# Altium integrated library National Semiconductor Voltage Reference.IntLib: 796 symbols (part 20 of 20)
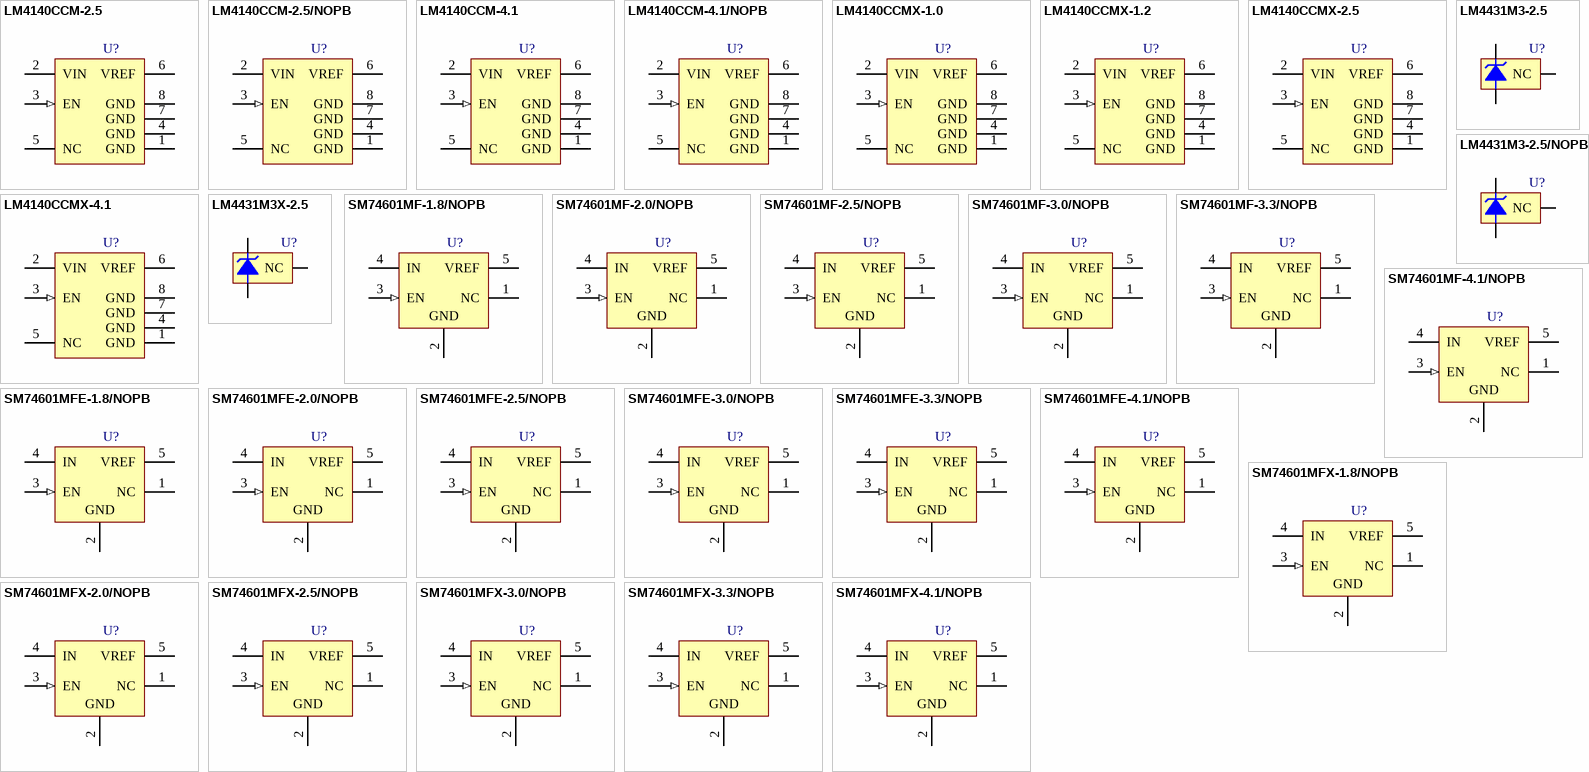
[diagram p39: symbols LM4140CCM-2.5 to SM74601MFX-4.1/NOPB]

## SM74601MF-3.0/NOPB
designator U?
SOT-23 Precision Micropower Series Voltage Reference, 5-pin SOT-23; PartNumber: SM74601MF-3.0/NOPB; Manufacturer: National Semiconductor; PackageTopMarking: S604*XTT; PowerWise: N; CompType: Voltage Reference IC; High-Reliability: Y; DatasheetVersion: Sep-2001; PackageVersion: revD, Aug-2008; PackageReference: MF05A; PackageDescription: Molded SOT-23, .115 x .063 x .040 in Body, 5 Lead, .0375 in Pitch; RoHS: Y; PinCount: 5; ComponentLink1Description: Manufacturer URL; ComponentLink1URL: http://www.national.com/; ComponentLink2Description: SM74601 Datasheet; ComponentLink2URL: http://www.national.com/ds/SM/SM74601.pdf; ComponentLink3Description: SM74601 Web Page; ComponentLink3URL: http://www.national.com/pf/SM/SM74601.html; ComponentLink4Description: MF05A Package Page; ComponentLink4URL: http://www.national.com/packaging/folders/mf05a.html
footprint MF05A_N (SOT23, 5-Leads, Body 2.9x1.6mm, Pitch 0.95mm, Lead Span 2.8mm, IPC Medium Density)
footprint MF05A_L (SOT23, 5-Leads, Body 2.9x1.6mm, Pitch 0.95mm, Lead Span 2.8mm, IPC High Density)
footprint MF05A_M (SOT23, 5-Leads, Body 2.9x1.6mm, Pitch 0.95mm, Lead Span 2.8mm, IPC Low Density)
pins: 1 NC, 2 GND (power), 3 EN (in), 4 IN (power), 5 VREF (power)

## SM74601MF-3.3/NOPB
designator U?
SOT-23 Precision Micropower Series Voltage Reference, 5-pin SOT-23; PartNumber: SM74601MF-3.3/NOPB; Manufacturer: National Semiconductor; PackageTopMarking: S605*XTT; PowerWise: N; CompType: Voltage Reference IC; High-Reliability: Y; DatasheetVersion: Sep-2001; PackageVersion: revD, Aug-2008; PackageReference: MF05A; PackageDescription: Molded SOT-23, .115 x .063 x .040 in Body, 5 Lead, .0375 in Pitch; RoHS: Y; PinCount: 5; ComponentLink1Description: Manufacturer URL; ComponentLink1URL: http://www.national.com/; ComponentLink2Description: SM74601 Datasheet; ComponentLink2URL: http://www.national.com/ds/SM/SM74601.pdf; ComponentLink3Description: SM74601 Web Page; ComponentLink3URL: http://www.national.com/pf/SM/SM74601.html; ComponentLink4Description: MF05A Package Page; ComponentLink4URL: http://www.national.com/packaging/folders/mf05a.html
footprint MF05A_N (SOT23, 5-Leads, Body 2.9x1.6mm, Pitch 0.95mm, Lead Span 2.8mm, IPC Medium Density)
footprint MF05A_L (SOT23, 5-Leads, Body 2.9x1.6mm, Pitch 0.95mm, Lead Span 2.8mm, IPC High Density)
footprint MF05A_M (SOT23, 5-Leads, Body 2.9x1.6mm, Pitch 0.95mm, Lead Span 2.8mm, IPC Low Density)
pins: 1 NC, 2 GND (power), 3 EN (in), 4 IN (power), 5 VREF (power)

## SM74601MF-4.1/NOPB
designator U?
SOT-23 Precision Micropower Series Voltage Reference, 5-pin SOT-23; PartNumber: SM74601MF-4.1/NOPB; Manufacturer: National Semiconductor; PackageTopMarking: S606*XTT; PowerWise: N; CompType: Voltage Reference IC; High-Reliability: Y; DatasheetVersion: Sep-2001; PackageVersion: revD, Aug-2008; PackageReference: MF05A; PackageDescription: Molded SOT-23, .115 x .063 x .040 in Body, 5 Lead, .0375 in Pitch; RoHS: Y; PinCount: 5; ComponentLink1Description: Manufacturer URL; ComponentLink1URL: http://www.national.com/; ComponentLink2Description: SM74601 Datasheet; ComponentLink2URL: http://www.national.com/ds/SM/SM74601.pdf; ComponentLink3Description: SM74601 Web Page; ComponentLink3URL: http://www.national.com/pf/SM/SM74601.html; ComponentLink4Description: MF05A Package Page; ComponentLink4URL: http://www.national.com/packaging/folders/mf05a.html
footprint MF05A_N (SOT23, 5-Leads, Body 2.9x1.6mm, Pitch 0.95mm, Lead Span 2.8mm, IPC Medium Density)
footprint MF05A_L (SOT23, 5-Leads, Body 2.9x1.6mm, Pitch 0.95mm, Lead Span 2.8mm, IPC High Density)
footprint MF05A_M (SOT23, 5-Leads, Body 2.9x1.6mm, Pitch 0.95mm, Lead Span 2.8mm, IPC Low Density)
pins: 1 NC, 2 GND (power), 3 EN (in), 4 IN (power), 5 VREF (power)

## SM74601MFE-1.8/NOPB
designator U?
SOT-23 Precision Micropower Series Voltage Reference, 5-pin SOT-23; PartNumber: SM74601MFE-1.8/NOPB; Manufacturer: National Semiconductor; PackageTopMarking: S602*XTT; PowerWise: N; CompType: Voltage Reference IC; High-Reliability: Y; DatasheetVersion: Sep-2001; PackageVersion: revD, Aug-2008; PackageReference: MF05A; PackageDescription: Molded SOT-23, .115 x .063 x .040 in Body, 5 Lead, .0375 in Pitch; RoHS: Y; PinCount: 5; ComponentLink1Description: Manufacturer URL; ComponentLink1URL: http://www.national.com/; ComponentLink2Description: SM74601 Datasheet; ComponentLink2URL: http://www.national.com/ds/SM/SM74601.pdf; ComponentLink3Description: SM74601 Web Page; ComponentLink3URL: http://www.national.com/pf/SM/SM74601.html; ComponentLink4Description: MF05A Package Page; ComponentLink4URL: http://www.national.com/packaging/folders/mf05a.html
footprint MF05A_N (SOT23, 5-Leads, Body 2.9x1.6mm, Pitch 0.95mm, Lead Span 2.8mm, IPC Medium Density)
footprint MF05A_L (SOT23, 5-Leads, Body 2.9x1.6mm, Pitch 0.95mm, Lead Span 2.8mm, IPC High Density)
footprint MF05A_M (SOT23, 5-Leads, Body 2.9x1.6mm, Pitch 0.95mm, Lead Span 2.8mm, IPC Low Density)
pins: 1 NC, 2 GND (power), 3 EN (in), 4 IN (power), 5 VREF (power)

## SM74601MFE-2.0/NOPB
designator U?
SOT-23 Precision Micropower Series Voltage Reference, 5-pin SOT-23; PartNumber: SM74601MFE-2.0/NOPB; Manufacturer: National Semiconductor; PackageTopMarking: S603*XTT; PowerWise: N; CompType: Voltage Reference IC; High-Reliability: Y; DatasheetVersion: Sep-2001; PackageVersion: revD, Aug-2008; PackageReference: MF05A; PackageDescription: Molded SOT-23, .115 x .063 x .040 in Body, 5 Lead, .0375 in Pitch; RoHS: Y; PinCount: 5; ComponentLink1Description: Manufacturer URL; ComponentLink1URL: http://www.national.com/; ComponentLink2Description: SM74601 Datasheet; ComponentLink2URL: http://www.national.com/ds/SM/SM74601.pdf; ComponentLink3Description: SM74601 Web Page; ComponentLink3URL: http://www.national.com/pf/SM/SM74601.html; ComponentLink4Description: MF05A Package Page; ComponentLink4URL: http://www.national.com/packaging/folders/mf05a.html
footprint MF05A_N (SOT23, 5-Leads, Body 2.9x1.6mm, Pitch 0.95mm, Lead Span 2.8mm, IPC Medium Density)
footprint MF05A_L (SOT23, 5-Leads, Body 2.9x1.6mm, Pitch 0.95mm, Lead Span 2.8mm, IPC High Density)
footprint MF05A_M (SOT23, 5-Leads, Body 2.9x1.6mm, Pitch 0.95mm, Lead Span 2.8mm, IPC Low Density)
pins: 1 NC, 2 GND (power), 3 EN (in), 4 IN (power), 5 VREF (power)

## SM74601MFE-2.5/NOPB
designator U?
SOT-23 Precision Micropower Series Voltage Reference, 5-pin SOT-23; PartNumber: SM74601MFE-2.5/NOPB; Manufacturer: National Semiconductor; PackageTopMarking: S601*XTT; PowerWise: N; CompType: Voltage Reference IC; High-Reliability: Y; DatasheetVersion: Sep-2001; PackageVersion: revD, Aug-2008; PackageReference: MF05A; PackageDescription: Molded SOT-23, .115 x .063 x .040 in Body, 5 Lead, .0375 in Pitch; RoHS: Y; PinCount: 5; ComponentLink1Description: Manufacturer URL; ComponentLink1URL: http://www.national.com/; ComponentLink2Description: SM74601 Datasheet; ComponentLink2URL: http://www.national.com/ds/SM/SM74601.pdf; ComponentLink3Description: SM74601 Web Page; ComponentLink3URL: http://www.national.com/pf/SM/SM74601.html; ComponentLink4Description: MF05A Package Page; ComponentLink4URL: http://www.national.com/packaging/folders/mf05a.html
footprint MF05A_N (SOT23, 5-Leads, Body 2.9x1.6mm, Pitch 0.95mm, Lead Span 2.8mm, IPC Medium Density)
footprint MF05A_L (SOT23, 5-Leads, Body 2.9x1.6mm, Pitch 0.95mm, Lead Span 2.8mm, IPC High Density)
footprint MF05A_M (SOT23, 5-Leads, Body 2.9x1.6mm, Pitch 0.95mm, Lead Span 2.8mm, IPC Low Density)
pins: 1 NC, 2 GND (power), 3 EN (in), 4 IN (power), 5 VREF (power)

## SM74601MFE-3.0/NOPB
designator U?
SOT-23 Precision Micropower Series Voltage Reference, 5-pin SOT-23; PartNumber: SM74601MFE-3.0/NOPB; Manufacturer: National Semiconductor; PackageTopMarking: S604*XTT; PowerWise: N; CompType: Voltage Reference IC; High-Reliability: Y; DatasheetVersion: Sep-2001; PackageVersion: revD, Aug-2008; PackageReference: MF05A; PackageDescription: Molded SOT-23, .115 x .063 x .040 in Body, 5 Lead, .0375 in Pitch; RoHS: Y; PinCount: 5; ComponentLink1Description: Manufacturer URL; ComponentLink1URL: http://www.national.com/; ComponentLink2Description: SM74601 Datasheet; ComponentLink2URL: http://www.national.com/ds/SM/SM74601.pdf; ComponentLink3Description: SM74601 Web Page; ComponentLink3URL: http://www.national.com/pf/SM/SM74601.html; ComponentLink4Description: MF05A Package Page; ComponentLink4URL: http://www.national.com/packaging/folders/mf05a.html
footprint MF05A_N (SOT23, 5-Leads, Body 2.9x1.6mm, Pitch 0.95mm, Lead Span 2.8mm, IPC Medium Density)
footprint MF05A_L (SOT23, 5-Leads, Body 2.9x1.6mm, Pitch 0.95mm, Lead Span 2.8mm, IPC High Density)
footprint MF05A_M (SOT23, 5-Leads, Body 2.9x1.6mm, Pitch 0.95mm, Lead Span 2.8mm, IPC Low Density)
pins: 1 NC, 2 GND (power), 3 EN (in), 4 IN (power), 5 VREF (power)

## SM74601MFE-3.3/NOPB
designator U?
SOT-23 Precision Micropower Series Voltage Reference, 5-pin SOT-23; PartNumber: SM74601MFE-3.3/NOPB; Manufacturer: National Semiconductor; PackageTopMarking: S605*XTT; PowerWise: N; CompType: Voltage Reference IC; High-Reliability: Y; DatasheetVersion: Sep-2001; PackageVersion: revD, Aug-2008; PackageReference: MF05A; PackageDescription: Molded SOT-23, .115 x .063 x .040 in Body, 5 Lead, .0375 in Pitch; RoHS: Y; PinCount: 5; ComponentLink1Description: Manufacturer URL; ComponentLink1URL: http://www.national.com/; ComponentLink2Description: SM74601 Datasheet; ComponentLink2URL: http://www.national.com/ds/SM/SM74601.pdf; ComponentLink3Description: SM74601 Web Page; ComponentLink3URL: http://www.national.com/pf/SM/SM74601.html; ComponentLink4Description: MF05A Package Page; ComponentLink4URL: http://www.national.com/packaging/folders/mf05a.html
footprint MF05A_N (SOT23, 5-Leads, Body 2.9x1.6mm, Pitch 0.95mm, Lead Span 2.8mm, IPC Medium Density)
footprint MF05A_L (SOT23, 5-Leads, Body 2.9x1.6mm, Pitch 0.95mm, Lead Span 2.8mm, IPC High Density)
footprint MF05A_M (SOT23, 5-Leads, Body 2.9x1.6mm, Pitch 0.95mm, Lead Span 2.8mm, IPC Low Density)
pins: 1 NC, 2 GND (power), 3 EN (in), 4 IN (power), 5 VREF (power)

## SM74601MFE-4.1/NOPB
designator U?
SOT-23 Precision Micropower Series Voltage Reference, 5-pin SOT-23; PartNumber: SM74601MFE-4.1/NOPB; Manufacturer: National Semiconductor; PackageTopMarking: S606*XTT; PowerWise: N; CompType: Voltage Reference IC; High-Reliability: Y; DatasheetVersion: Sep-2001; PackageVersion: revD, Aug-2008; PackageReference: MF05A; PackageDescription: Molded SOT-23, .115 x .063 x .040 in Body, 5 Lead, .0375 in Pitch; RoHS: Y; PinCount: 5; ComponentLink1Description: Manufacturer URL; ComponentLink1URL: http://www.national.com/; ComponentLink2Description: SM74601 Datasheet; ComponentLink2URL: http://www.national.com/ds/SM/SM74601.pdf; ComponentLink3Description: SM74601 Web Page; ComponentLink3URL: http://www.national.com/pf/SM/SM74601.html; ComponentLink4Description: MF05A Package Page; ComponentLink4URL: http://www.national.com/packaging/folders/mf05a.html
footprint MF05A_N (SOT23, 5-Leads, Body 2.9x1.6mm, Pitch 0.95mm, Lead Span 2.8mm, IPC Medium Density)
footprint MF05A_L (SOT23, 5-Leads, Body 2.9x1.6mm, Pitch 0.95mm, Lead Span 2.8mm, IPC High Density)
footprint MF05A_M (SOT23, 5-Leads, Body 2.9x1.6mm, Pitch 0.95mm, Lead Span 2.8mm, IPC Low Density)
pins: 1 NC, 2 GND (power), 3 EN (in), 4 IN (power), 5 VREF (power)

## SM74601MFX-1.8/NOPB
designator U?
SOT-23 Precision Micropower Series Voltage Reference, 5-pin SOT-23; PartNumber: SM74601MFX-1.8/NOPB; Manufacturer: National Semiconductor; PackageTopMarking: S602*XTT; PowerWise: N; CompType: Voltage Reference IC; High-Reliability: Y; DatasheetVersion: Sep-2001; PackageVersion: revD, Aug-2008; PackageReference: MF05A; PackageDescription: Molded SOT-23, .115 x .063 x .040 in Body, 5 Lead, .0375 in Pitch; RoHS: Y; PinCount: 5; ComponentLink1Description: Manufacturer URL; ComponentLink1URL: http://www.national.com/; ComponentLink2Description: SM74601 Datasheet; ComponentLink2URL: http://www.national.com/ds/SM/SM74601.pdf; ComponentLink3Description: SM74601 Web Page; ComponentLink3URL: http://www.national.com/pf/SM/SM74601.html; ComponentLink4Description: MF05A Package Page; ComponentLink4URL: http://www.national.com/packaging/folders/mf05a.html
footprint MF05A_N (SOT23, 5-Leads, Body 2.9x1.6mm, Pitch 0.95mm, Lead Span 2.8mm, IPC Medium Density)
footprint MF05A_L (SOT23, 5-Leads, Body 2.9x1.6mm, Pitch 0.95mm, Lead Span 2.8mm, IPC High Density)
footprint MF05A_M (SOT23, 5-Leads, Body 2.9x1.6mm, Pitch 0.95mm, Lead Span 2.8mm, IPC Low Density)
pins: 1 NC, 2 GND (power), 3 EN (in), 4 IN (power), 5 VREF (power)

## SM74601MFX-2.0/NOPB
designator U?
SOT-23 Precision Micropower Series Voltage Reference, 5-pin SOT-23; PartNumber: SM74601MFX-2.0/NOPB; Manufacturer: National Semiconductor; PackageTopMarking: S603*XTT; PowerWise: N; CompType: Voltage Reference IC; High-Reliability: Y; DatasheetVersion: Sep-2001; PackageVersion: revD, Aug-2008; PackageReference: MF05A; PackageDescription: Molded SOT-23, .115 x .063 x .040 in Body, 5 Lead, .0375 in Pitch; RoHS: Y; PinCount: 5; ComponentLink1Description: Manufacturer URL; ComponentLink1URL: http://www.national.com/; ComponentLink2Description: SM74601 Datasheet; ComponentLink2URL: http://www.national.com/ds/SM/SM74601.pdf; ComponentLink3Description: SM74601 Web Page; ComponentLink3URL: http://www.national.com/pf/SM/SM74601.html; ComponentLink4Description: MF05A Package Page; ComponentLink4URL: http://www.national.com/packaging/folders/mf05a.html
footprint MF05A_N (SOT23, 5-Leads, Body 2.9x1.6mm, Pitch 0.95mm, Lead Span 2.8mm, IPC Medium Density)
footprint MF05A_L (SOT23, 5-Leads, Body 2.9x1.6mm, Pitch 0.95mm, Lead Span 2.8mm, IPC High Density)
footprint MF05A_M (SOT23, 5-Leads, Body 2.9x1.6mm, Pitch 0.95mm, Lead Span 2.8mm, IPC Low Density)
pins: 1 NC, 2 GND (power), 3 EN (in), 4 IN (power), 5 VREF (power)

## SM74601MFX-2.5/NOPB
designator U?
SOT-23 Precision Micropower Series Voltage Reference, 5-pin SOT-23; PartNumber: SM74601MFX-2.5/NOPB; Manufacturer: National Semiconductor; PackageTopMarking: S601*XTT; PowerWise: N; CompType: Voltage Reference IC; High-Reliability: Y; DatasheetVersion: Sep-2001; PackageVersion: revD, Aug-2008; PackageReference: MF05A; PackageDescription: Molded SOT-23, .115 x .063 x .040 in Body, 5 Lead, .0375 in Pitch; RoHS: Y; PinCount: 5; ComponentLink1Description: Manufacturer URL; ComponentLink1URL: http://www.national.com/; ComponentLink2Description: SM74601 Datasheet; ComponentLink2URL: http://www.national.com/ds/SM/SM74601.pdf; ComponentLink3Description: SM74601 Web Page; ComponentLink3URL: http://www.national.com/pf/SM/SM74601.html; ComponentLink4Description: MF05A Package Page; ComponentLink4URL: http://www.national.com/packaging/folders/mf05a.html
footprint MF05A_N (SOT23, 5-Leads, Body 2.9x1.6mm, Pitch 0.95mm, Lead Span 2.8mm, IPC Medium Density)
footprint MF05A_L (SOT23, 5-Leads, Body 2.9x1.6mm, Pitch 0.95mm, Lead Span 2.8mm, IPC High Density)
footprint MF05A_M (SOT23, 5-Leads, Body 2.9x1.6mm, Pitch 0.95mm, Lead Span 2.8mm, IPC Low Density)
pins: 1 NC, 2 GND (power), 3 EN (in), 4 IN (power), 5 VREF (power)

## SM74601MFX-3.0/NOPB
designator U?
SOT-23 Precision Micropower Series Voltage Reference, 5-pin SOT-23; PartNumber: SM74601MFX-3.0/NOPB; Manufacturer: National Semiconductor; PackageTopMarking: S604*XTT; PowerWise: N; CompType: Voltage Reference IC; High-Reliability: Y; DatasheetVersion: Sep-2001; PackageVersion: revD, Aug-2008; PackageReference: MF05A; PackageDescription: Molded SOT-23, .115 x .063 x .040 in Body, 5 Lead, .0375 in Pitch; RoHS: Y; PinCount: 5; ComponentLink1Description: Manufacturer URL; ComponentLink1URL: http://www.national.com/; ComponentLink2Description: SM74601 Datasheet; ComponentLink2URL: http://www.national.com/ds/SM/SM74601.pdf; ComponentLink3Description: SM74601 Web Page; ComponentLink3URL: http://www.national.com/pf/SM/SM74601.html; ComponentLink4Description: MF05A Package Page; ComponentLink4URL: http://www.national.com/packaging/folders/mf05a.html
footprint MF05A_N (SOT23, 5-Leads, Body 2.9x1.6mm, Pitch 0.95mm, Lead Span 2.8mm, IPC Medium Density)
footprint MF05A_L (SOT23, 5-Leads, Body 2.9x1.6mm, Pitch 0.95mm, Lead Span 2.8mm, IPC High Density)
footprint MF05A_M (SOT23, 5-Leads, Body 2.9x1.6mm, Pitch 0.95mm, Lead Span 2.8mm, IPC Low Density)
pins: 1 NC, 2 GND (power), 3 EN (in), 4 IN (power), 5 VREF (power)

## SM74601MFX-3.3/NOPB
designator U?
SOT-23 Precision Micropower Series Voltage Reference, 5-pin SOT-23; PartNumber: SM74601MFX-3.3/NOPB; Manufacturer: National Semiconductor; PackageTopMarking: S605*XTT; PowerWise: N; CompType: Voltage Reference IC; High-Reliability: Y; DatasheetVersion: Sep-2001; PackageVersion: revD, Aug-2008; PackageReference: MF05A; PackageDescription: Molded SOT-23, .115 x .063 x .040 in Body, 5 Lead, .0375 in Pitch; RoHS: Y; PinCount: 5; ComponentLink1Description: Manufacturer URL; ComponentLink1URL: http://www.national.com/; ComponentLink2Description: SM74601 Datasheet; ComponentLink2URL: http://www.national.com/ds/SM/SM74601.pdf; ComponentLink3Description: SM74601 Web Page; ComponentLink3URL: http://www.national.com/pf/SM/SM74601.html; ComponentLink4Description: MF05A Package Page; ComponentLink4URL: http://www.national.com/packaging/folders/mf05a.html
footprint MF05A_N (SOT23, 5-Leads, Body 2.9x1.6mm, Pitch 0.95mm, Lead Span 2.8mm, IPC Medium Density)
footprint MF05A_L (SOT23, 5-Leads, Body 2.9x1.6mm, Pitch 0.95mm, Lead Span 2.8mm, IPC High Density)
footprint MF05A_M (SOT23, 5-Leads, Body 2.9x1.6mm, Pitch 0.95mm, Lead Span 2.8mm, IPC Low Density)
pins: 1 NC, 2 GND (power), 3 EN (in), 4 IN (power), 5 VREF (power)

## SM74601MFX-4.1/NOPB
designator U?
SOT-23 Precision Micropower Series Voltage Reference, 5-pin SOT-23; PartNumber: SM74601MFX-4.1/NOPB; Manufacturer: National Semiconductor; PackageTopMarking: S606*XTT; PowerWise: N; CompType: Voltage Reference IC; High-Reliability: Y; DatasheetVersion: Sep-2001; PackageVersion: revD, Aug-2008; PackageReference: MF05A; PackageDescription: Molded SOT-23, .115 x .063 x .040 in Body, 5 Lead, .0375 in Pitch; RoHS: Y; PinCount: 5; ComponentLink1Description: Manufacturer URL; ComponentLink1URL: http://www.national.com/; ComponentLink2Description: SM74601 Datasheet; ComponentLink2URL: http://www.national.com/ds/SM/SM74601.pdf; ComponentLink3Description: SM74601 Web Page; ComponentLink3URL: http://www.national.com/pf/SM/SM74601.html; ComponentLink4Description: MF05A Package Page; ComponentLink4URL: http://www.national.com/packaging/folders/mf05a.html
footprint MF05A_N (SOT23, 5-Leads, Body 2.9x1.6mm, Pitch 0.95mm, Lead Span 2.8mm, IPC Medium Density)
footprint MF05A_L (SOT23, 5-Leads, Body 2.9x1.6mm, Pitch 0.95mm, Lead Span 2.8mm, IPC High Density)
footprint MF05A_M (SOT23, 5-Leads, Body 2.9x1.6mm, Pitch 0.95mm, Lead Span 2.8mm, IPC Low Density)
pins: 1 NC, 2 GND (power), 3 EN (in), 4 IN (power), 5 VREF (power)